# Altium footprint library TXS0101DCKR.PcbLib: 3 footprints
Each footprint in its own frame and in the unit in brackets; x right, y up, seen from the top. Pads: shape width x height; smd on the part's side, far side on the other; paste and mask are expansions set on the pad; w line width, h text height; cw(c..) or ccw(c..) is an arc to the next point about the centre after c.
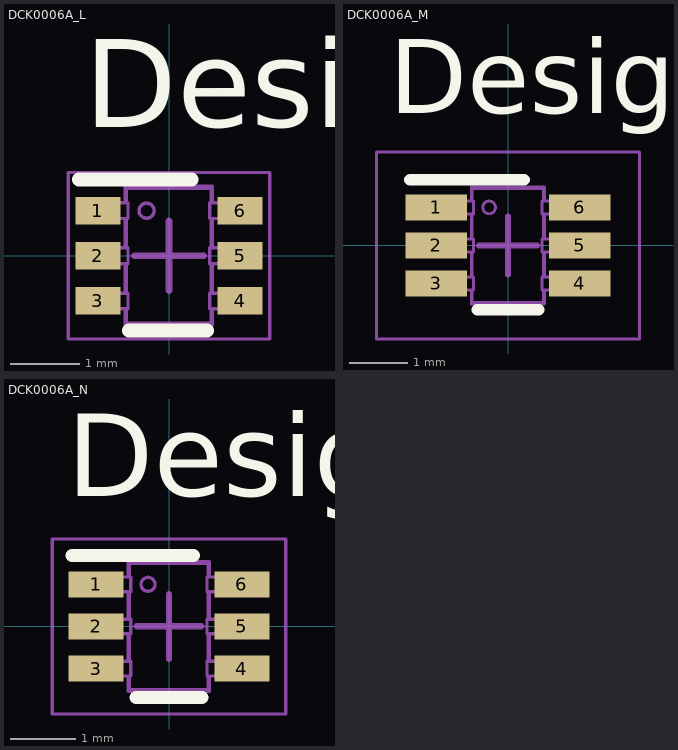
[diagram p0: the footprints below, top view; thin cyan lines are the x and y axes]

## DCK0006A_L [mm]
pads (6):
  rect 0.65x0.4 smd paste+0 mask+0.051: 1(-1.025,0.65) 2(-1.025,0) 3(-1.025,-0.65) 4(1.025,-0.65) 5(1.025,0) 6(1.025,0.65)
Top Overlay:
  lines w0.2: -1.3,1.1 0.325,1.1 ; -0.575,-1.075 0.55,-1.075
  text "Designator182" at -1.219,1.854 h1.27
Mechanical 13:
  lines w0.05: -0.613,-0.763 -0.613,-0.976 0.607,-0.976 0.607,-0.763 ; -0.613,-0.538 -0.613,-0.113 ; -0.613,0.112 -0.613,0.537 ; -0.613,0.762 -0.613,0.974 0.607,0.974 0.607,0.762 ; 0.607,-0.538 0.607,-0.113 ; 0.607,0.112 0.607,0.537 ; -0.628,-0.763 -0.628,-1.001 0.622,-1.001 0.622,-0.763 ; -0.628,-0.763 -0.853,-0.763 -0.865,-0.763 -0.959,-0.763 -1.143,-0.763 -1.143,-0.538 -0.959,-0.538 -0.865,-0.538 -0.853,-0.538 -0.628,-0.538 ; -0.628,-0.763 -0.591,-0.763 -0.591,-0.538 -0.628,-0.538 ; -0.628,-0.538 -0.628,-0.113 ; -0.628,-0.113 -0.853,-0.113 -0.865,-0.113 -0.959,-0.113 -1.143,-0.113 -1.143,0.112 -0.959,0.112 -0.865,0.112 -0.853,0.112 -0.628,0.112 ; -0.628,-0.113 -0.591,-0.113 -0.591,0.112 -0.628,0.112 ; -0.628,0.112 -0.628,0.537 ; -0.628,0.537 -0.853,0.537 -0.865,0.537 -0.959,0.537 -1.143,0.537 -1.143,0.762 -0.959,0.762 -0.865,0.762 -0.853,0.762 -0.628,0.762 ; -0.628,0.537 -0.591,0.537 -0.591,0.762 -0.628,0.762 ; -0.628,0.762 -0.628,0.999 0.622,0.999 0.622,0.762 ; 0.622,-0.763 0.847,-0.763 0.859,-0.763 0.953,-0.763 1.137,-0.763 1.137,-0.538 0.953,-0.538 0.859,-0.538 0.847,-0.538 0.622,-0.538 ; 0.622,-0.763 0.585,-0.763 0.585,-0.538 0.622,-0.538 ; 0.622,-0.538 0.622,-0.113 ; 0.622,-0.113 0.585,-0.113 0.585,0.112 0.622,0.112 ; 0.622,-0.113 0.847,-0.113 0.859,-0.113 0.953,-0.113 1.137,-0.113 1.137,0.112 0.953,0.112 0.859,0.112 0.847,0.112 0.622,0.112 ; 0.622,0.112 0.622,0.537 ; 0.622,0.537 0.847,0.537 0.859,0.537 0.953,0.537 1.137,0.537 1.137,0.762 0.953,0.762 0.859,0.762 0.847,0.762 0.622,0.762 ; 0.622,0.537 0.585,0.537 0.585,0.762 0.622,0.762 ; -0.432,0.65 cw(c-0.323,0.65) -0.215,0.65 cw(c-0.323,0.65) -0.432,0.65
  text ".Designator" at -0.686,0.66 h1.27
Mechanical 15:
  lines w0.05: -1.45,-1.2 1.45,-1.2 1.45,1.2 -1.45,1.2 -1.45,-1.2
  lines w0.1: -0.5,0 0.5,0 ; 0,-0.5 0,0.5
3D body: height 0.25, standoff 0, extent 0,0 0.254,0.254

## DCK0006A_M [mm]
pads (6):
  rect 1.05x0.45 smd paste+0 mask+0.051: 1(-1.225,0.65) 2(-1.225,0) 3(-1.225,-0.65) 4(1.225,-0.65) 5(1.225,0) 6(1.225,0.65)
Top Overlay:
  lines w0.2: -1.675,1.125 0.275,1.125 ; -0.525,-1.1 0.525,-1.1
  text "Designator180" at -2.032,2.261 h1.27
Mechanical 13:
  lines w0.05: -0.613,-0.763 -0.613,-0.976 0.607,-0.976 0.607,-0.763 ; -0.613,-0.538 -0.613,-0.113 ; -0.613,0.112 -0.613,0.537 ; -0.613,0.762 -0.613,0.974 0.607,0.974 0.607,0.762 ; 0.607,-0.538 0.607,-0.113 ; 0.607,0.112 0.607,0.537 ; -0.628,-0.763 -0.628,-1.001 0.622,-1.001 0.622,-0.763 ; -0.628,-0.763 -0.853,-0.763 -0.865,-0.763 -0.959,-0.763 -1.143,-0.763 -1.143,-0.538 -0.959,-0.538 -0.865,-0.538 -0.853,-0.538 -0.628,-0.538 ; -0.628,-0.763 -0.591,-0.763 -0.591,-0.538 -0.628,-0.538 ; -0.628,-0.538 -0.628,-0.113 ; -0.628,-0.113 -0.853,-0.113 -0.865,-0.113 -0.959,-0.113 -1.143,-0.113 -1.143,0.112 -0.959,0.112 -0.865,0.112 -0.853,0.112 -0.628,0.112 ; -0.628,-0.113 -0.591,-0.113 -0.591,0.112 -0.628,0.112 ; -0.628,0.112 -0.628,0.537 ; -0.628,0.537 -0.853,0.537 -0.865,0.537 -0.959,0.537 -1.143,0.537 -1.143,0.762 -0.959,0.762 -0.865,0.762 -0.853,0.762 -0.628,0.762 ; -0.628,0.537 -0.591,0.537 -0.591,0.762 -0.628,0.762 ; -0.628,0.762 -0.628,0.999 0.622,0.999 0.622,0.762 ; 0.622,-0.763 0.847,-0.763 0.859,-0.763 0.953,-0.763 1.137,-0.763 1.137,-0.538 0.953,-0.538 0.859,-0.538 0.847,-0.538 0.622,-0.538 ; 0.622,-0.763 0.585,-0.763 0.585,-0.538 0.622,-0.538 ; 0.622,-0.538 0.622,-0.113 ; 0.622,-0.113 0.585,-0.113 0.585,0.112 0.622,0.112 ; 0.622,-0.113 0.847,-0.113 0.859,-0.113 0.953,-0.113 1.137,-0.113 1.137,0.112 0.953,0.112 0.859,0.112 0.847,0.112 0.622,0.112 ; 0.622,0.112 0.622,0.537 ; 0.622,0.537 0.847,0.537 0.859,0.537 0.953,0.537 1.137,0.537 1.137,0.762 0.953,0.762 0.859,0.762 0.847,0.762 0.622,0.762 ; 0.622,0.537 0.585,0.537 0.585,0.762 0.622,0.762 ; -0.432,0.65 cw(c-0.323,0.65) -0.215,0.65 cw(c-0.323,0.65) -0.432,0.65
  text ".Designator" at -0.686,0.66 h1.27
Mechanical 15:
  lines w0.05: -2.25,-1.6 -2.25,1.6 2.25,1.6 2.25,-1.6 -2.25,-1.6
  lines w0.1: -0.5,0 0.5,0 ; 0,-0.5 0,0.5
3D body: height 0.25, standoff 0, extent 0,0 0.254,0.254

## DCK0006A_N [mm]
pads (6):
  rect 0.85x0.4 smd paste+0 mask+0.051: 1(-1.125,0.65) 2(-1.125,0) 3(-1.125,-0.65) 4(1.125,-0.65) 5(1.125,0) 6(1.125,0.65)
Top Overlay:
  lines w0.2: -1.499,1.092 0.381,1.092 ; -0.508,-1.092 0.508,-1.092
  text "Designator179" at -1.575,2.007 h1.27
Mechanical 13:
  lines w0.05: -0.613,-0.763 -0.613,-0.976 0.607,-0.976 0.607,-0.763 ; -0.613,-0.538 -0.613,-0.113 ; -0.613,0.112 -0.613,0.537 ; -0.613,0.762 -0.613,0.974 0.607,0.974 0.607,0.762 ; 0.607,-0.538 0.607,-0.113 ; 0.607,0.112 0.607,0.537 ; -0.628,-0.763 -0.628,-1.001 0.622,-1.001 0.622,-0.763 ; -0.628,-0.763 -0.853,-0.763 -0.865,-0.763 -0.959,-0.763 -1.143,-0.763 -1.143,-0.538 -0.959,-0.538 -0.865,-0.538 -0.853,-0.538 -0.628,-0.538 ; -0.628,-0.763 -0.591,-0.763 -0.591,-0.538 -0.628,-0.538 ; -0.628,-0.538 -0.628,-0.113 ; -0.628,-0.113 -0.853,-0.113 -0.865,-0.113 -0.959,-0.113 -1.143,-0.113 -1.143,0.112 -0.959,0.112 -0.865,0.112 -0.853,0.112 -0.628,0.112 ; -0.628,-0.113 -0.591,-0.113 -0.591,0.112 -0.628,0.112 ; -0.628,0.112 -0.628,0.537 ; -0.628,0.537 -0.853,0.537 -0.865,0.537 -0.959,0.537 -1.143,0.537 -1.143,0.762 -0.959,0.762 -0.865,0.762 -0.853,0.762 -0.628,0.762 ; -0.628,0.537 -0.591,0.537 -0.591,0.762 -0.628,0.762 ; -0.628,0.762 -0.628,0.999 0.622,0.999 0.622,0.762 ; 0.622,-0.763 0.847,-0.763 0.859,-0.763 0.953,-0.763 1.137,-0.763 1.137,-0.538 0.953,-0.538 0.859,-0.538 0.847,-0.538 0.622,-0.538 ; 0.622,-0.763 0.585,-0.763 0.585,-0.538 0.622,-0.538 ; 0.622,-0.538 0.622,-0.113 ; 0.622,-0.113 0.585,-0.113 0.585,0.112 0.622,0.112 ; 0.622,-0.113 0.847,-0.113 0.859,-0.113 0.953,-0.113 1.137,-0.113 1.137,0.112 0.953,0.112 0.859,0.112 0.847,0.112 0.622,0.112 ; 0.622,0.112 0.622,0.537 ; 0.622,0.537 0.847,0.537 0.859,0.537 0.953,0.537 1.137,0.537 1.137,0.762 0.953,0.762 0.859,0.762 0.847,0.762 0.622,0.762 ; 0.622,0.537 0.585,0.537 0.585,0.762 0.622,0.762 ; -0.432,0.65 cw(c-0.323,0.65) -0.215,0.65 cw(c-0.323,0.65) -0.432,0.65
  text ".Designator" at -0.686,0.66 h1.27
Mechanical 15:
  lines w0.05: -1.8,-1.35 -1.8,1.35 1.8,1.35 1.8,-1.35 -1.8,-1.35
  lines w0.1: -0.5,0 0.5,0 ; 0,-0.5 0,0.5
3D body: height 0.25, standoff 0, extent 0,0 0.254,0.254